# Altium schematic symbol library ICM-20602.Schlib: 1 symbol
Pins are listed as number, name and electrical type; pins without a type are passive.

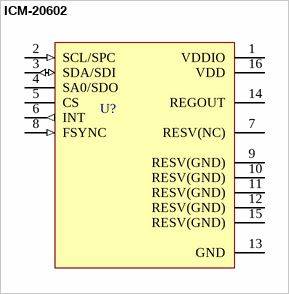
[diagram p0: symbol ICM-20602]

## ICM-20602
designator U?
6-Axis MEMS Motion Tracking Device (IMU)
pins: 1 VDDIO (power), 2 SCL/SPC (in), 3 SDA/SDI (io), 4 SA0/SDO, 5 CS, 6 INT (out), 7 RESV(NC), 8 FSYNC (in), 9 RESV(GND), 10 RESV(GND), 11 RESV(GND), 12 RESV(GND), 13 GND (power), 14 REGOUT, 15 RESV(GND), 16 VDD (power)